# EAGLE library part MP2307 (library polargraph3)
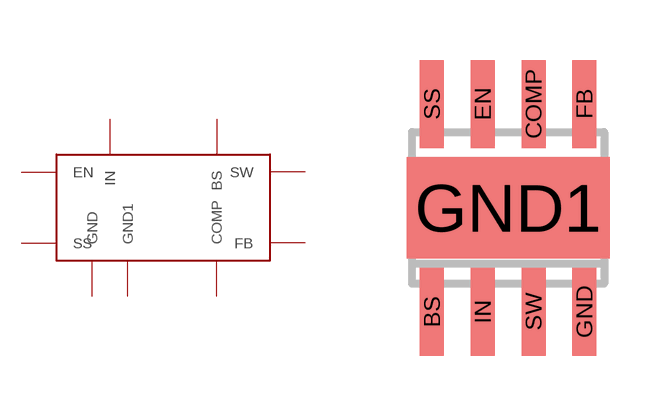
[diagram p0: symbol with the pads of SOIC8; footprint SOIC8]

Designator prefix -

## MP2307  [SOIC8]
BS  BS
COMP  COMP
EN  EN
FB  FB
GND  GND
GND1  GND1
IN  IN
SS  SS
SW  SW

## Footprint SOIC8 (pad centres in mm)
smd 0.6 x 2.2: BS -1.905,-2.6; COMP 0.635,2.6; EN -0.635,2.6; FB 1.905,2.6; GND 1.905,-2.6; IN -0.635,-2.6; SS -1.905,2.6; SW 0.635,-2.6
smd 5.08 x 2.54: GND1 0,0